# Altium footprint library sucaiku.PcbLib: 35 footprints (part 3 of 3)
Each footprint in its own frame and in the unit in brackets; x right, y up, seen from the top. Pads: shape width x height; smd on the part's side, far side on the other; paste and mask are expansions set on the pad; w line width, h text height; cw(c..) or ccw(c..) is an arc to the next point about the centre after c.
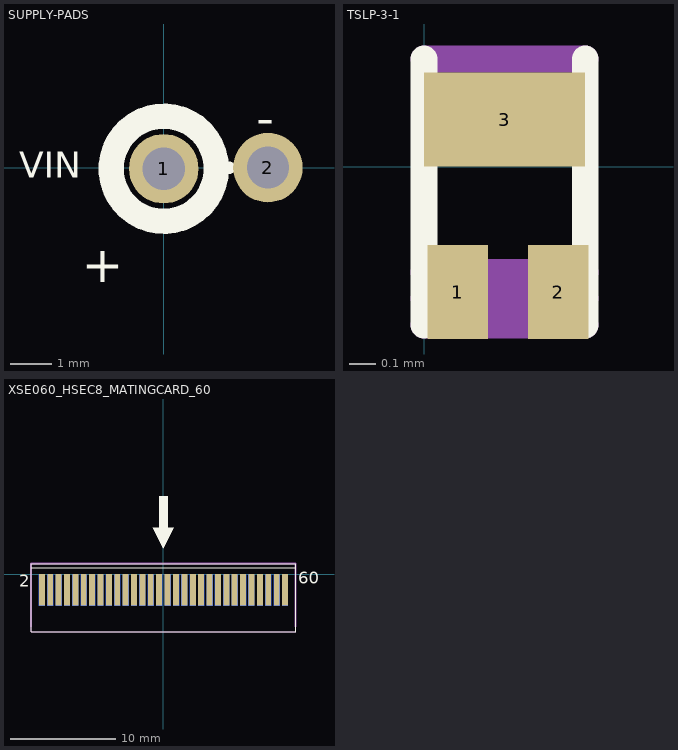
[diagram p2: the footprints below, top view; thin cyan lines are the x and y axes]

## SUPPLY-PADS [mil] "SUPPLY-PADS"
pads (2):
  round 66 hole 40: 1(0,-1) 2(99,0)
Top Overlay:
  circle w24: c0,-1 r50
  lines w12: 46,0 62,0
  text "VIN" at -137.5,-17.5 h42.5
  text "+" at -78,-120 h59.5
  text "-" at 88,20 h59.5
Mechanical 16:
  rectangle: 90,-10 110,10
  rectangle: -10,-10 10,10

## TSLP-3-1 [mil] "TSLP-3-1"
pads (3):
  rect 9x14 smd: 1(5,-18.7) 2(20,-18.7)
  rect 24x14 smd: 3(12,7)
Top Overlay:
  lines w4: 0,-23.62 0,-19.68 0,-15.75 0,16 ; 24,-23.62 24,-19.68 24,-15.75 24,16
Mechanical 16:
  lines w4: 0,-23.62 24,-23.62 ; 0,-19.68 24,-19.68 ; 0,-15.75 24,-15.75 ; 0,16 24,16

## XSE060_HSEC8_MATINGCARD_60 [mil] "XSE060_HSEC8_MATINGCARD_60"
pads (60):
  rect 22x119 smd far side: 1(-456.69,-59.06) 3(-425.2,-59.06) 5(-393.7,-59.06) 7(-362.2,-59.06) 9(-330.71,-59.06) 11(-299.21,-59.06) 13(-267.72,-59.06) 15(-236.22,-59.06) 17(-204.72,-59.06) 19(-173.23,-59.06) 21(-141.73,-59.06) 23(-110.24,-59.06) 25(-78.74,-59.06) 27(-47.24,-59.06) 29(-15.75,-59.06) 31(16,-59.06) 33(48,-59.06) 35(79,-59.06) 37(111,-59.06) 39(142,-59.06) 41(174,-59.06) 43(205,-59.06) 45(237,-59.06) 47(268,-59.06) 49(300,-59.06) 51(331,-59.06) 53(363,-59.06) 55(394,-59.06) 57(426,-59.06) 59(457,-59.06)
  rect 22x119 smd: 2(-456.69,-59.06) 4(-425.2,-59.06) 6(-393.7,-59.06) 8(-362.2,-59.06) 10(-330.71,-59.06) 12(-299.21,-59.06) 14(-267.72,-59.06) 16(-236.22,-59.06) 18(-204.72,-59.06) 20(-173.23,-59.06) 22(-141.73,-59.06) 24(-110.24,-59.06) 26(-78.74,-59.06) 28(-47.24,-59.06) 30(-15.75,-59.06) 32(16,-59.06) 34(48,-59.06) 36(79,-59.06) 38(111,-59.06) 40(142,-59.06) 42(174,-59.06) 44(205,-59.06) 46(237,-59.06) 48(268,-59.06) 50(300,-59.06) 52(331,-59.06) 54(363,-59.06) 56(394,-59.06) 58(426,-59.06) 60(457,-59.06)
Top Overlay:
  region: 0,97 -39.37,175 -15.75,175 -15.75,293 16,293 16,175 40,175
  lines w4: -497.24,24 -497.24,-216.54 497,-216.54 497,24 ; -497.24,24 497,24 ; -497.24,24 -497.24,40 497,40 497,24
  text "2" at -542.5,-61.48 h77.5
  text "60" at 507.5,-51.52 h77.5
Bottom Overlay:
  region: 0,97 -39.37,175 -15.75,175 -15.75,293 16,293 16,175 40,175
  lines w4: -497.24,24 -497.24,-216.54 497,-216.54 497,24 ; -497.24,24 497,24 ; -497.24,24 -497.24,40 497,40 497,24
  text "59" at 520,-55.12 h77.5
  text "1" at -456.69,-55.12 h77.5
Mechanical 1:
  lines w0: -497.24,-196.85 -497.24,40 497,40 497,-196.85
Mechanical 11:
  lines w8: -497.24,-196.85 -497.24,40 497,40 497,-196.85
Mechanical 27:
  lines w4: -497.24,-216.54 497,-216.54 497,40 -497.24,40 -497.24,-216.54
Mechanical 28:
  lines w4: -497.24,-216.54 497,-216.54 497,40 -497.24,40 -497.24,-216.54